# Altium schematic symbol library SCH - POWER - PMIC - TI TPS65023QRSBRQ1.Schlib: 1 symbol
Pins are listed as number, name and electrical type; pins without a type are passive.

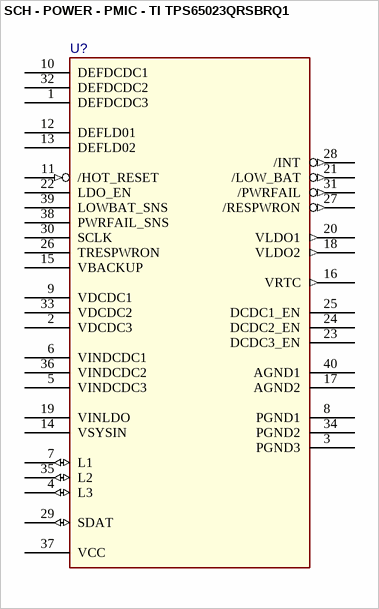
[diagram p0: symbol SCH - POWER - PMIC - TI TPS65023QRSBRQ1]

## SCH - POWER - PMIC - TI TPS65023QRSBRQ1
designator U?
footprint TPS65023RSBTG4_TP
pins: 1 DEFDCDC3, 2 VDCDC3, 3 PGND3, 4 L3 (io), 5 VINDCDC3, 6 VINDCDC1, 7 L1 (io), 8 PGND1, 9 VDCDC1, 10 DEFDCDC1, 11 /HOT_RESET (in), 12 DEFLD01, 13 DEFLD02, 14 VSYSIN, 15 VBACKUP, 16 VRTC (out), 17 AGND2, 18 VLDO2 (out), 19 VINLDO, 20 VLDO1 (out), 21 /LOW_BAT (out), 22 LDO_EN, 23 DCDC3_EN, 24 DCDC2_EN, 25 DCDC1_EN, 26 TRESPWRON, 27 /RESPWRON (out), 28 /INT (out), 29 SDAT (io), 30 SCLK, 31 /PWRFAIL (out), 32 DEFDCDC2, 33 VDCDC2, 34 PGND2, 35 L2 (io), 36 VINDCDC2, 37 VCC, 38 PWRFAIL_SNS, 39 LOWBAT_SNS, 40 AGND1